# EAGLE library part 555 (library code next)
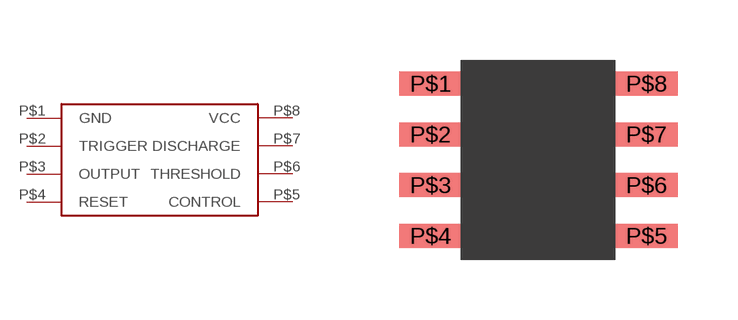
[diagram p0: symbol with the pads of 555SMD; footprint 555SMD]

Designator prefix Q

## 555SOIC8  [555SMD]
P$1  GND
P$2  TRIGGER
P$3  OUTPUT
P$4  RESET
P$5  CONTROL
P$6  THRESHOLD
P$7  DISCHARGE
P$8  VCC

## Footprint 555SMD (pad centres in mm)
smd 1.55 x 0.6: P$1 -2.7,1.905; P$2 -2.7,0.635; P$3 -2.7,-0.635; P$4 -2.7,-1.905; P$5 2.7,-1.905; P$6 2.7,-0.635; P$7 2.7,0.635; P$8 2.7,1.905